# Altium footprint library OSTTA020161.PcbLib: 2 footprints
Each footprint in its own frame and in the unit in brackets; x right, y up, seen from the top. Pads: shape width x height; smd on the part's side, far side on the other; paste and mask are expansions set on the pad; w line width, h text height; cw(c..) or ccw(c..) is an arc to the next point about the centre after c.
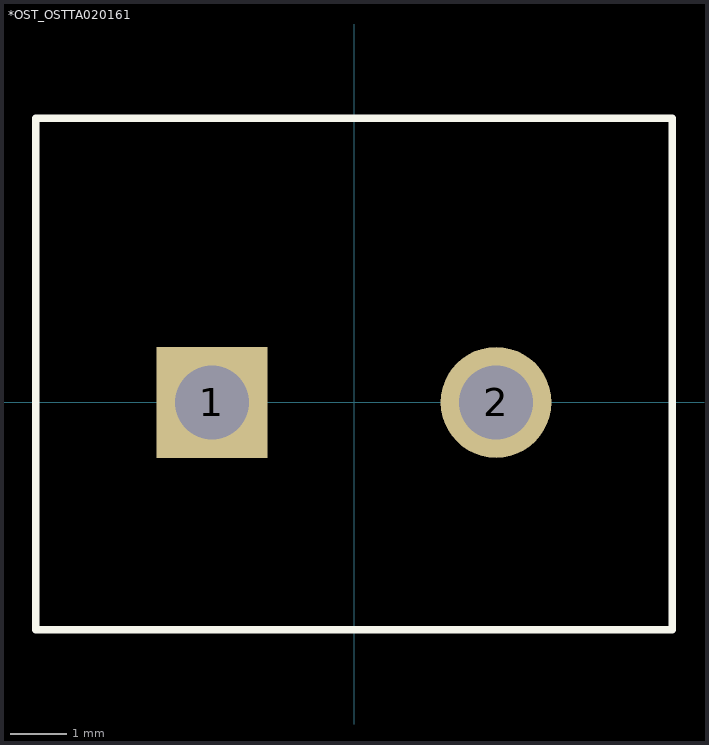
[diagram p0: the footprints below, top view; thin cyan lines are the x and y axes]

## *OST_OSTTA020161 [mm]
pads (2):
  rect 1.95x1.95 hole 1.3: 1(-2.5,0)
  round 1.95 hole 1.3: 2(2.5,0)
Top Overlay:
  lines w0.127: -5.6,-4 -5.6,5 5.6,5 5.6,-4 -5.6,-4

## PCBComponent_1 [mm]